# Altium schematic symbol library G2R-1A-E.SchLib: 1 symbol
Pins are listed as number, name and electrical type; pins without a type are passive.

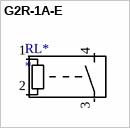
[diagram p0: symbol G2R-1A-E]

## G2R-1A-E
designator RL*
https://www.tme.eu/pl/details/g2r-1a-e-24dc/przekazniki-elektromagn-miniaturowe/omron-ocb/g2r-1a-e-24vdc/
footprint G2R-1A-E
pins: 1, 2, 3, 4